# Altium integrated library Vertical Switching Board.IntLib: 7 symbols
Pins are listed as number, name and electrical type; pins without a type are passive.

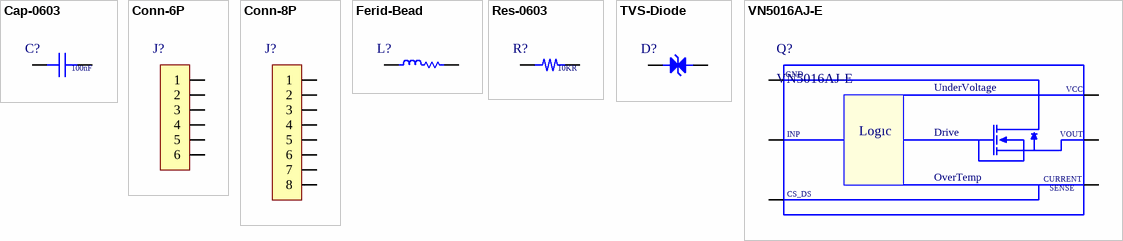
[diagram p0: symbols Cap-0603 to VN5016AJ-E]

## Cap-0603
designator C?  value 100nF
footprint C-0603
pins: 1, 2

## Conn-6P
designator J?  (value not drawn)
footprint 6P-CONN
pins: 1, 2, 3, 4, 5, 6

## Conn-8P
designator J?  (value not drawn)
footprint 8P-CONN
pins: 1, 2, 3, 4, 5, 6, 7, 8

## Ferid-Bead
designator L?  (value not drawn)
footprint FB-0603
pins: 1, 2

## Res-0603
designator R?  value 10KR  (hidden comment: *)
footprint R-0603
pins: 1, 2

## TVS-Diode
designator D?  (value not drawn)
footprint TVS
pins: 1, 2

## VN5016AJ-E
designator Q?
footprint PowerSSO-12
pins: 1 VCC, 2 GND, 3 INP, 4 CURRENT_SENSE, 5 CS_DC, 6 VCC, 7 OUT, 8 OUT, 9 OUT, 10 OUT, 11 OUT, 12 OUT
text: UnderVoltage; Logıc; Drive; VOUT; OverTemp; CURRENT; SENSE; CS_DS